# EAGLE library part SUBMINI_TOGGLE_DPDT (library MusicThingModular)
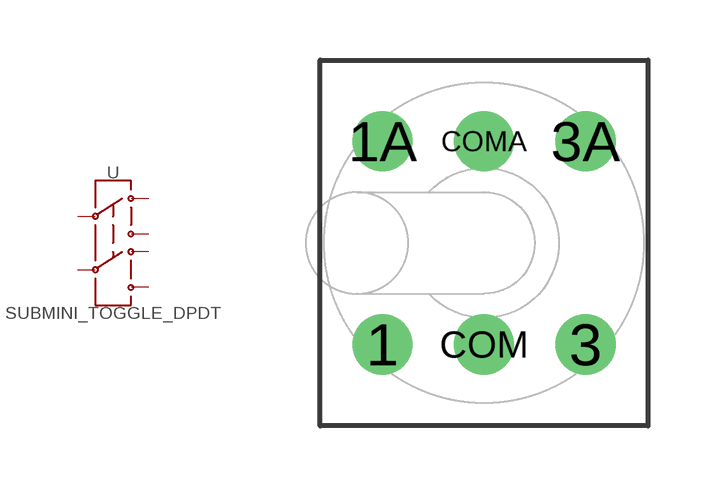
[diagram p15: symbol with the pads of SUBMINI_TOGGLE_DPDT; footprint SUBMINI_TOGGLE_DPDT]

Designator prefix -

## SUBMINI_TOGGLE_DPDT  [SUBMINI_TOGGLE_DPDT]
1  1
1A  4
3  3
3A  6
COM  2
COMA  5

## Footprint SUBMINI_TOGGLE_DPDT (pad centres in mm)
Submini Toggle Thonk 108-0044-EVX
drill 1 pad 1.422: 1 -2.54,-2.54; 1A -2.54,2.54; 3 2.54,-2.54; 3A 2.54,2.54; COM 0,-2.54; COMA 0,2.54